# Altium footprint library BGA.PcbLib: 2 footprints
Each footprint in its own frame and in the unit in brackets; x right, y up, seen from the top. Pads: shape width x height; smd on the part's side, far side on the other; paste and mask are expansions set on the pad; w line width, h text height; cw(c..) or ccw(c..) is an arc to the next point about the centre after c.
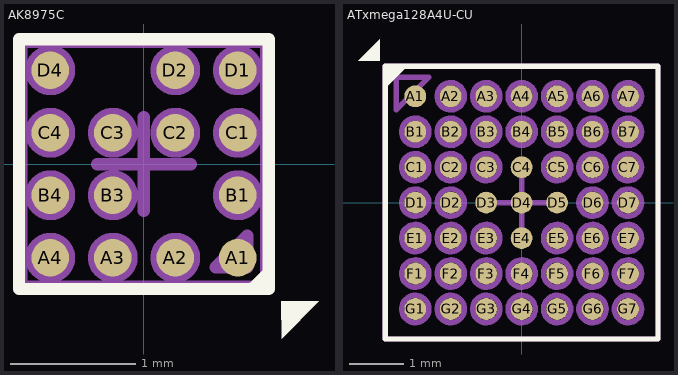
[diagram p0: the footprints below, top view; thin cyan lines are the x and y axes]

## AK8975C [mm] "14-pin WL-CSP (BGA): 2x2x0.6 mm"
height 0.6
pads (14):
  round 0.3 smd: A1(0.75,-0.75) A2(0.25,-0.75) A3(-0.25,-0.75) A4(-0.75,-0.75) B1(0.75,-0.25) B3(-0.25,-0.25) B4(-0.75,-0.25) C1(0.75,0.25) C2(0.25,0.25) C3(-0.25,0.25) C4(-0.75,0.25) D1(0.75,0.75) D2(0.25,0.75) D4(-0.75,0.75)
Top Overlay:
  region: 1,-0.8 1,-1 0.8,-1
  region: 1.1,-1.4 1.1,-1.1 1.4,-1.1
  lines w0.1: -1,-1 -1,1 1,1 1,-1 -1,-1
Top Package:
  circle w0.1: c0.25,0.25 r0.15
  circle w0.1: c-0.25,0.25 r0.15
  circle w0.1: c-0.25,-0.25 r0.15
  circle w0.1: c-0.25,-0.75 r0.15
  circle w0.1: c-0.75,-0.75 r0.15
  circle w0.1: c-0.75,-0.25 r0.15
  circle w0.1: c0.25,-0.75 r0.15
  circle w0.1: c0.75,-0.25 r0.15
  circle w0.1: c0.75,0.25 r0.15
  circle w0.1: c0.75,0.75 r0.15
  circle w0.1: c0.25,0.75 r0.15
  circle w0.1: c-0.75,0.75 r0.15
  circle w0.1: c-0.75,0.25 r0.15
  lines w0.1: -0.98,-0.98 -0.98,0.98 0.98,0.98 0.98,-0.98 -0.98,-0.98 ; 0.575,-0.825 0.825,-0.825 0.825,-0.575 0.575,-0.825
Top Border:
  lines w0.1: -0.375,0 0,0 ; 0,-0.375 0,0 ; 0,0.375 0,0 ; 0.375,0 0,0 ; -0.98,-0.98 0.98,-0.98 0.98,0.98 -0.98,0.98 -0.98,-0.98
3D body "AK8975.stp": height 0.56, standoff 0, extent -0.98,-0.98 0.98,0.98

## ATxmega128A4U-CU [mm] "49C2, 49-ball (7 x 7 array), 0.65mm pitch,  5.0 x 5.0 x 1.0mm, very thin, fine-pitch  ball grid array package (VFBGA)"
height 1
pads (49):
  round 0.4 smd: A1(-1.95,1.95) A2(-1.3,1.95) A3(-0.65,1.95) A4(0,1.95) A5(0.65,1.95) A6(1.3,1.95) A7(1.95,1.95) B1(-1.95,1.3) B2(-1.3,1.3) B3(-0.65,1.3) B4(0,1.3) B5(0.65,1.3) B6(1.3,1.3) B7(1.95,1.3) C1(-1.95,0.65) C2(-1.3,0.65) C3(-0.65,0.65) C4(0,0.65) C5(0.65,0.65) C6(1.3,0.65) C7(1.95,0.65) D1(-1.95,0) D2(-1.3,0) D3(-0.65,0) D4(0,0) D5(0.65,0) D6(1.3,0) E1(-1.95,-0.65) E2(-1.3,-0.65) E3(-0.65,-0.65) E4(0,-0.65) E5(0.65,-0.65) E6(1.3,-0.65) E7(1.95,-0.65) F1(-1.95,-1.3) F2(-1.3,-1.3) F3(-0.65,-1.3) F4(0,-1.3) F5(0.65,-1.3) F6(1.3,-1.3) F7(1.95,-1.3) G1(-1.95,-1.95) G2(-1.3,-1.95) G3(-0.65,-1.95) G4(0,-1.95) G5(0.65,-1.95) G6(1.3,-1.95) G7(1.95,-1.95)
  round 0.4 smd paste+0: D7(1.95,0)
Top Overlay:
  region: -2.5,2.1 -2.5,2.5 -2.1,2.5
  region: -2.6,3 -2.6,2.6 -3,2.6
  lines w0.1: -2.5,-2.5 2.5,-2.5 2.5,2.5 -2.5,2.5 -2.5,-2.5
Top Package:
  circle w0.1: c0.65,1.3 r0.25
  circle w0.1: c0,1.3 r0.25
  circle w0.1: c-0.65,1.3 r0.25
  circle w0.1: c-1.3,1.3 r0.25
  circle w0.1: c-1.95,1.3 r0.25
  circle w0.1: c-1.3,1.95 r0.25
  circle w0.1: c-0.65,1.95 r0.25
  circle w0.1: c0,1.95 r0.25
  circle w0.1: c0.65,1.95 r0.25
  circle w0.1: c1.3,1.95 r0.25
  circle w0.1: c1.3,1.3 r0.25
  circle w0.1: c1.95,1.3 r0.25
  circle w0.1: c1.95,1.95 r0.25
  circle w0.1: c0.65,0.65 r0.25
  circle w0.1: c-0.65,0.65 r0.25
  circle w0.1: c-0.65,-0.65 r0.25
  circle w0.1: c0.65,-0.65 r0.25
  circle w0.1: c-1.3,0.65 r0.25
  circle w0.1: c-1.95,0.65 r0.25
  circle w0.1: c-1.95,0 r0.25
  circle w0.1: c-1.3,0 r0.25
  circle w0.1: c-1.3,-0.65 r0.25
  circle w0.1: c-1.95,-0.65 r0.25
  circle w0.1: c1.3,0 r0.25
  circle w0.1: c1.3,0.65 r0.25
  circle w0.1: c1.95,0.65 r0.25
  circle w0.1: c1.95,0 r0.25
  circle w0.1: c1.95,-0.65 r0.25
  circle w0.1: c1.3,-0.65 r0.25
  circle w0.1: c-1.95,-1.3 r0.25
  circle w0.1: c-1.3,-1.3 r0.25
  circle w0.1: c-0.65,-1.3 r0.25
  circle w0.1: c0,-1.3 r0.25
  circle w0.1: c0.65,-1.3 r0.25
  circle w0.1: c1.3,-1.3 r0.25
  circle w0.1: c1.95,-1.3 r0.25
  circle w0.1: c-1.95,-1.95 r0.25
  circle w0.1: c-1.3,-1.95 r0.25
  circle w0.1: c-0.65,-1.95 r0.25
  circle w0.1: c0,-1.95 r0.25
  circle w0.1: c0.65,-1.95 r0.25
  circle w0.1: c1.3,-1.95 r0.25
  circle w0.1: c1.95,-1.95 r0.25
  lines w0.1: -2.5,-2.5 2.5,-2.5 2.5,2.5 -2.5,2.5 -2.5,-2.5 ; -2.3,1.7 -2.3,2.3 -1.7,2.3 -2.3,1.7
Top Border:
  lines w0.1: -0.65,0 0,0 ; 0,-0.65 0,0 ; 0,0.65 0,0 ; 0.65,0 0,0 ; -2.5,-2.5 2.5,-2.5 2.5,2.5 -2.5,2.5 -2.5,-2.5
3D body "ATxmega128A4U-CU.stp": height 1, standoff 0.03, extent -2.5,-2.5 2.5,2.5